# Altium integrated library TI Data Converters Digital to Analog Converter.IntLib: 1533 symbols (part 55 of 99)
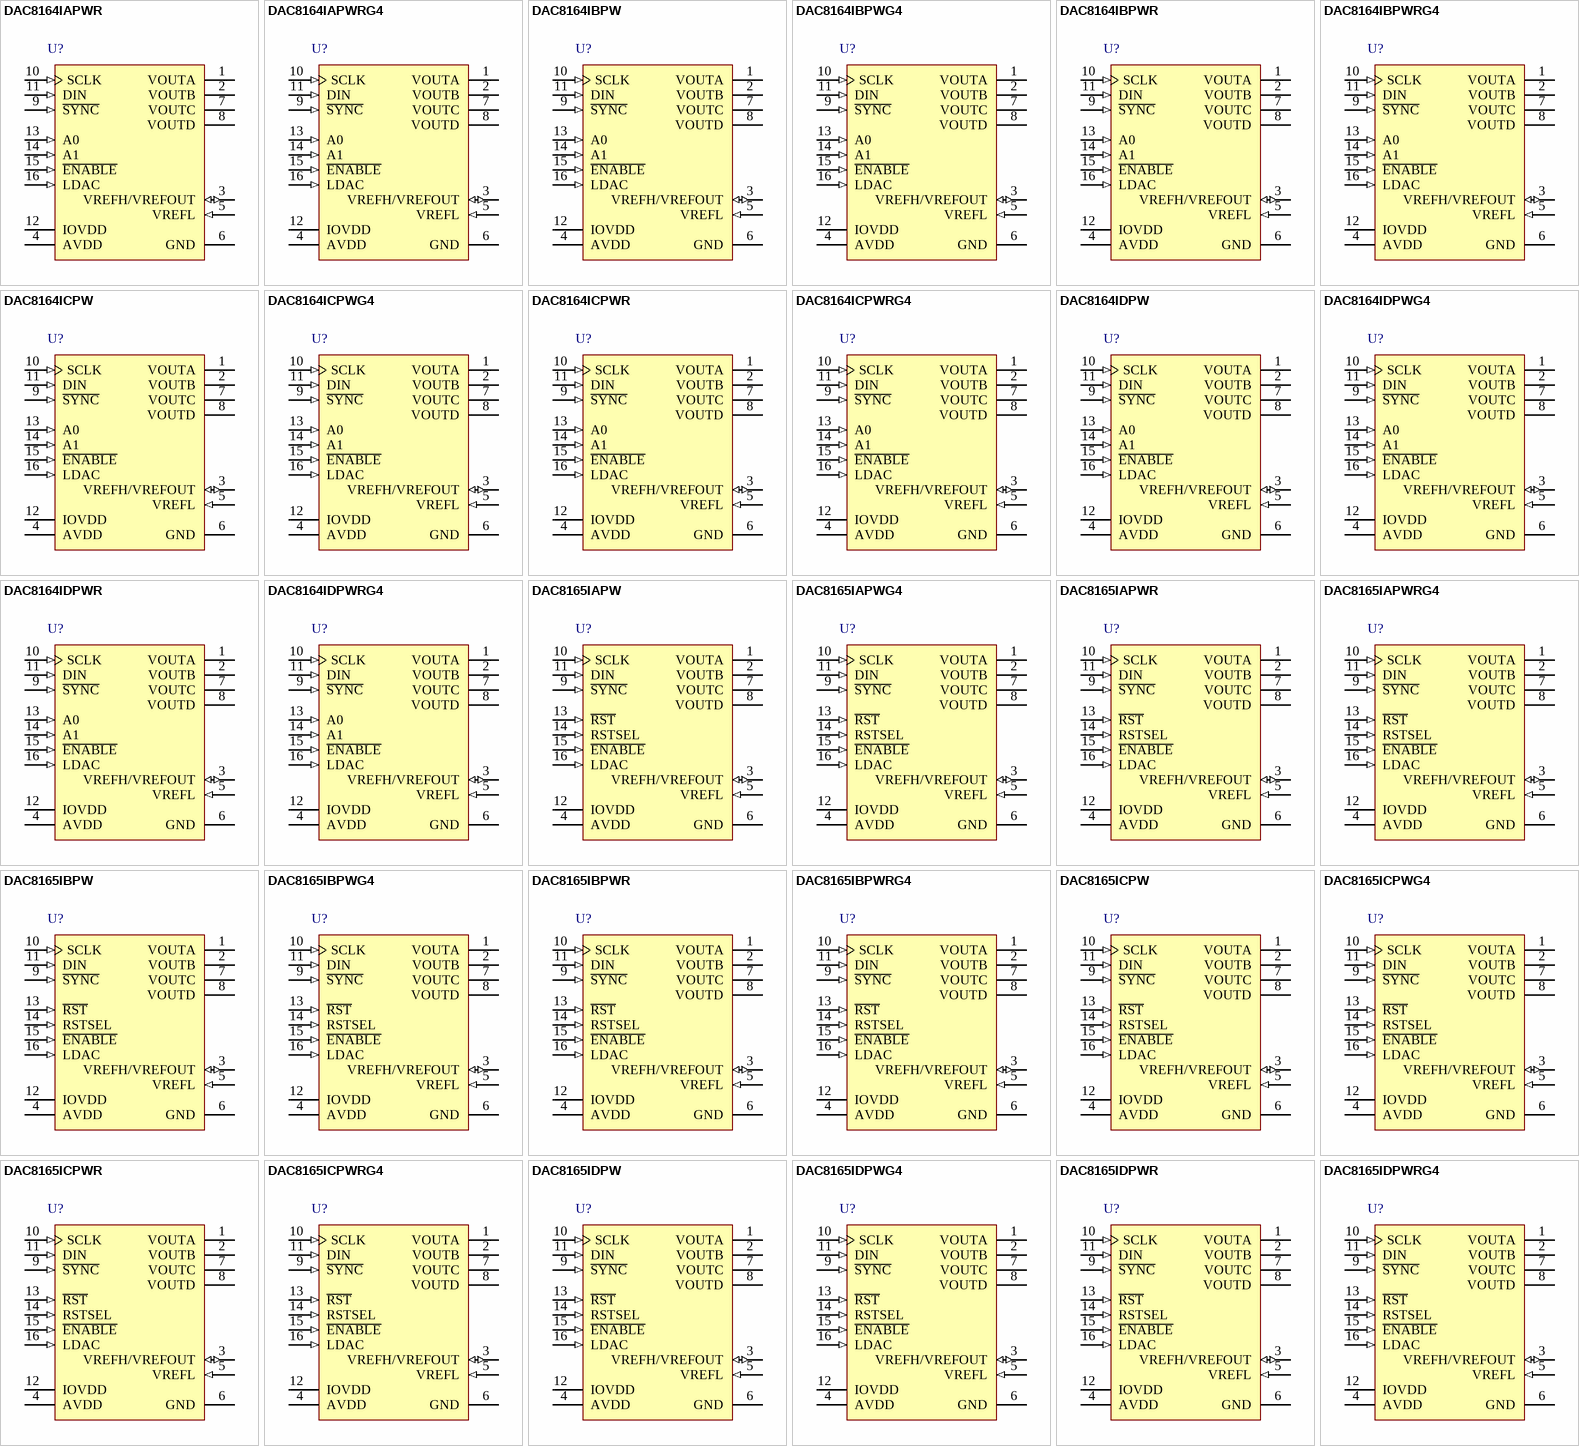
[diagram p127: symbols DAC8164IAPWR to DAC8165IDPWRG4]

## DAC8164IDPWR
designator U?
14-Bit, Quad Channel, Ultra-Low Glitch, Voltage Output DAC with 2.5 V, 2 ppm/degC Internal Reference, -40 to 105 degC, 16-pin SOP (PW16), Green (RoHS & no Sb/Br); Manufacturer: Texas Instruments; PartNumber: DAC8164IDPWR; DAC Channels: 4; DNL(Max)(+/-LSB): 1; INL(Max)(+/-LSB): 2; Interface: Serial SPI; Power Consumption(Typ)(mW): 2.6; Resolution(Bits): 14; Settling Time(us): 8; SFDR(dB): 79; SNR(dB): 87; SubFamily: Precision DAC (=<10MSPS); DatasheetVersion: SBAS410B; PackageVersion: 4040064-4/G, 02/2011; PackageReference: PW16; PackageDescription: 16-Pin Plastic Small Outline, Body 5 x 4.4 mm, Pitch 0.65 mm; Supplier 1: Digi-Key; Supplier Part Number 1: DAC8164IDPWR-ND; Supplier 2: Mouser; Supplier Part Number 2: 595-DAC8164IDPWR; Eco-Plan: Green (RoHS & no Sb/Br); Mounting Technology: Surface Mount; Code_JEDEC: MO-153; ComponentLink1Description: Manufacturer URL; ComponentLink1URL: http://www.ti.com/; ComponentLink2Description: Datasheet; ComponentLink2URL: http://www.ti.com/general/docs/lit/getliterature.tsp?genericPartNumber=DAC8164&fileType=pdf; ComponentLink3Description: Package Specification; ComponentLink3URL: http://www.ti.com/lit/ml/mpds361/mpds361.pdf
footprint TI-PW16_N (SOP, 16-Leads, Body 5x4.4mm, Pitch 0.65mm, IPC Medium Density)
footprint TI-PW16_L (SOP, 16-Leads, Body 5x4.4mm, Pitch 0.65mm, IPC High Density)
footprint TI-PW16_M (SOP, 16-Leads, Body 5x4.4mm, Pitch 0.65mm, IPC Low Density)
pins: 1 VOUTA (hiz) "Analog output voltage from DAC-A", 2 VOUTB (hiz) "Analog output voltage from DAC-B", 3 VREFH/VREFOUT (io) "Positive reference input / reference output 2.5V if internal reference used.", 4 AVDD (power) "Power-supply input, 2.7V to 5.5V", 5 VREFL (in) "Negative reference input", 6 GND (power) "Ground reference point for all circuitry on the part", 7 VOUTC (hiz) "Analog output voltage from DAC-C", 8 VOUTD (hiz) "Analog output voltage from DAC-D", 9 ~{SYNC} (in) "Level-triggered control input (active-low). This input is the frame synchronization signal for the input data. When S\Y\N\C\ goes low, it enables the input shift register, and data are sampled on subsequent falling clock (See Datasheet)", 10 SCLK (in) "Serial clock input. Data can be transferred at rates up to 50MHz. Schmitt-Trigger logic input", 11 DIN (in) "Serial data input. Data are clocked into the 24-bit input shift register on each falling edge of the serial clock input.Schmitt-trigger logic input", 12 IOVDD (power) "Digital input-output power supply", 13 A0 (in) "Address 0-sets device address", 14 A1 (in) "Address 1-sets device address", 15 ~{ENABLE} (in) "The enable pin (active low) connects the SPI interface to the serial port", 16 LDAC (in) "Load DACs; rising edge triggered, loads all DAC registers"

## DAC8164IDPWRG4
designator U?
14-Bit, Quad Channel, Ultra-Low Glitch, Voltage Output DAC with 2.5 V, 2 ppm/degC Internal Reference, -40 to 105 degC, 16-pin SOP (PW16), Green (RoHS & no Sb/Br); Manufacturer: Texas Instruments; PartNumber: DAC8164IDPWRG4; DAC Channels: 4; DNL(Max)(+/-LSB): 1; INL(Max)(+/-LSB): 2; Interface: Serial SPI; Power Consumption(Typ)(mW): 2.6; Resolution(Bits): 14; Settling Time(us): 8; SFDR(dB): 79; SNR(dB): 87; SubFamily: Precision DAC (=<10MSPS); DatasheetVersion: SBAS410B; PackageVersion: 4040064-4/G, 02/2011; PackageReference: PW16; PackageDescription: 16-Pin Plastic Small Outline, Body 5 x 4.4 mm, Pitch 0.65 mm; Supplier 1: Digi-Key; Supplier Part Number 1: DAC8164IDPWRG4-ND; Supplier 2: Mouser; Supplier Part Number 2: 595-DAC8164IDPWRG4; Eco-Plan: Green (RoHS & no Sb/Br); Mounting Technology: Surface Mount; Code_JEDEC: MO-153; ComponentLink1Description: Manufacturer URL; ComponentLink1URL: http://www.ti.com/; ComponentLink2Description: Datasheet; ComponentLink2URL: http://www.ti.com/general/docs/lit/getliterature.tsp?genericPartNumber=DAC8164&fileType=pdf; ComponentLink3Description: Package Specification; ComponentLink3URL: http://www.ti.com/lit/ml/mpds361/mpds361.pdf
footprint TI-PW16_N (SOP, 16-Leads, Body 5x4.4mm, Pitch 0.65mm, IPC Medium Density)
footprint TI-PW16_L (SOP, 16-Leads, Body 5x4.4mm, Pitch 0.65mm, IPC High Density)
footprint TI-PW16_M (SOP, 16-Leads, Body 5x4.4mm, Pitch 0.65mm, IPC Low Density)
pins: 1 VOUTA (hiz) "Analog output voltage from DAC-A", 2 VOUTB (hiz) "Analog output voltage from DAC-B", 3 VREFH/VREFOUT (io) "Positive reference input / reference output 2.5V if internal reference used.", 4 AVDD (power) "Power-supply input, 2.7V to 5.5V", 5 VREFL (in) "Negative reference input", 6 GND (power) "Ground reference point for all circuitry on the part", 7 VOUTC (hiz) "Analog output voltage from DAC-C", 8 VOUTD (hiz) "Analog output voltage from DAC-D", 9 ~{SYNC} (in) "Level-triggered control input (active-low). This input is the frame synchronization signal for the input data. When S\Y\N\C\ goes low, it enables the input shift register, and data are sampled on subsequent falling clock (See Datasheet)", 10 SCLK (in) "Serial clock input. Data can be transferred at rates up to 50MHz. Schmitt-Trigger logic input", 11 DIN (in) "Serial data input. Data are clocked into the 24-bit input shift register on each falling edge of the serial clock input.Schmitt-trigger logic input", 12 IOVDD (power) "Digital input-output power supply", 13 A0 (in) "Address 0-sets device address", 14 A1 (in) "Address 1-sets device address", 15 ~{ENABLE} (in) "The enable pin (active low) connects the SPI interface to the serial port", 16 LDAC (in) "Load DACs; rising edge triggered, loads all DAC registers"

## DAC8165IAPW
designator U?
14-Bit, Quad Channel, Ultra-Low Glitch, Voltage Output DAC with 2.5 V, 2 ppm/degC Internal Reference, -40 to 105 degC, 16-pin SOP (PW16), Green (RoHS & no Sb/Br); Manufacturer: Texas Instruments; PartNumber: DAC8165IAPW; DAC Channels: 4; DNL(Max)(+/-LSB): 1; Interface: Serial SPI; Power Consumption(Typ)(mW): 2.6; Resolution(Bits): 14; Settling Time(us): 8; SFDR(dB): 79; SNR(dB): 87; SubFamily: Precision DAC (=<10MSPS); DatasheetVersion: SBAS409B; PackageVersion: 4040064-4/G, 02/2011; PackageReference: PW16; PackageDescription: 16-Pin Plastic Small Outline, Body 5 x 4.4 mm, Pitch 0.65 mm; Supplier 1: Digi-Key; Supplier Part Number 1: 296-23146-5-ND; Supplier 2: Newark; Supplier Part Number 2: 89M0339; Supplier 3: Mouser; Supplier Part Number 3: 595-DAC8165IAPW; Eco-Plan: Green (RoHS & no Sb/Br); INL(Max)(+/-LSB): 4; Mounting Technology: Surface Mount; Code_JEDEC: MO-153; ComponentLink1Description: Manufacturer URL; ComponentLink1URL: http://www.ti.com/; ComponentLink2Description: Datasheet; ComponentLink2URL: http://www.ti.com/general/docs/lit/getliterature.tsp?genericPartNumber=DAC8165&fileType=pdf; ComponentLink3Description: Package Specification; ComponentLink3URL: http://www.ti.com/lit/ml/mpds361/mpds361.pdf
footprint TI-PW16_N (SOP, 16-Leads, Body 5x4.4mm, Pitch 0.65mm, IPC Medium Density)
footprint TI-PW16_L (SOP, 16-Leads, Body 5x4.4mm, Pitch 0.65mm, IPC High Density)
footprint TI-PW16_M (SOP, 16-Leads, Body 5x4.4mm, Pitch 0.65mm, IPC Low Density)
pins: 1 VOUTA (hiz) "Analog output voltage from DAC A", 2 VOUTB (hiz) "Analog output voltage from DAC B", 3 VREFH/VREFOUT (io) "Positive reference input / reference output 2.5V if internal reference used.", 4 AVDD (power) "Power-supply input, 2.7V to 5.5V", 5 VREFL (in) "Negative reference input", 6 GND (power) "Ground reference point for all circuitry on the part", 7 VOUTC (hiz) "Analog output voltage from DAC C", 8 VOUTD (hiz) "Analog output voltage from DAC D", 9 ~{SYNC} (in) "Level-triggered control input (active low). This input is the frame synchronization signal for the input data. When S\Y\N\C\ goes low, it enables the input shift register, and data are sampled on subsequent falling clock (See Datasheet)", 10 SCLK (in) "Serial clock input. Data can be transferred at rates up to 50MHz. Schmitt-Trigger logic input.", 11 DIN (in) "Serial data input. Data are clocked into the 24-bit input shift register on each falling edge of the serial clock input. Schmitt-Trigger logic input.", 12 IOVDD (power) "Digital input-output power supply", 13 ~{RST} (in) "Asynchronous reset. Active low. If R\S\T\ is low, all DAC channels reset either to zero-scale (RSTSEL = 0) or to mid-scale (RSTSEL = 1)", 14 RSTSEL (in) "Reset select. If RSTSEL is low, input coding is binary; if high = two's complement.", 15 ~{ENABLE} (in) "The enable pin (active low) connects the SPI interface to the serial port", 16 LDAC (in) "Load DACs; rising edge triggered, loads all DAC registers"

## DAC8165IAPWG4
designator U?
14-Bit, Quad Channel, Ultra-Low Glitch, Voltage Output DAC with 2.5 V, 2 ppm/degC Internal Reference, -40 to 105 degC, 16-pin SOP (PW16), Green (RoHS & no Sb/Br); Manufacturer: Texas Instruments; PartNumber: DAC8165IAPWG4; DAC Channels: 4; DNL(Max)(+/-LSB): 1; Interface: Serial SPI; Power Consumption(Typ)(mW): 2.6; Resolution(Bits): 14; Settling Time(us): 8; SFDR(dB): 79; SNR(dB): 87; SubFamily: Precision DAC (=<10MSPS); DatasheetVersion: SBAS409B; PackageVersion: 4040064-4/G, 02/2011; PackageReference: PW16; PackageDescription: 16-Pin Plastic Small Outline, Body 5 x 4.4 mm, Pitch 0.65 mm; Supplier 1: Digi-Key; Supplier Part Number 1: DAC8165IAPWG4-ND; Supplier 2: Mouser; Supplier Part Number 2: 595-DAC8165IAPWG4; Eco-Plan: Green (RoHS & no Sb/Br); INL(Max)(+/-LSB): 4; Mounting Technology: Surface Mount; Code_JEDEC: MO-153; ComponentLink1Description: Manufacturer URL; ComponentLink1URL: http://www.ti.com/; ComponentLink2Description: Datasheet; ComponentLink2URL: http://www.ti.com/general/docs/lit/getliterature.tsp?genericPartNumber=DAC8165&fileType=pdf; ComponentLink3Description: Package Specification; ComponentLink3URL: http://www.ti.com/lit/ml/mpds361/mpds361.pdf
footprint TI-PW16_N (SOP, 16-Leads, Body 5x4.4mm, Pitch 0.65mm, IPC Medium Density)
footprint TI-PW16_L (SOP, 16-Leads, Body 5x4.4mm, Pitch 0.65mm, IPC High Density)
footprint TI-PW16_M (SOP, 16-Leads, Body 5x4.4mm, Pitch 0.65mm, IPC Low Density)
pins: 1 VOUTA (hiz) "Analog output voltage from DAC A", 2 VOUTB (hiz) "Analog output voltage from DAC B", 3 VREFH/VREFOUT (io) "Positive reference input / reference output 2.5V if internal reference used.", 4 AVDD (power) "Power-supply input, 2.7V to 5.5V", 5 VREFL (in) "Negative reference input", 6 GND (power) "Ground reference point for all circuitry on the part", 7 VOUTC (hiz) "Analog output voltage from DAC C", 8 VOUTD (hiz) "Analog output voltage from DAC D", 9 ~{SYNC} (in) "Level-triggered control input (active low). This input is the frame synchronization signal for the input data. When S\Y\N\C\ goes low, it enables the input shift register, and data are sampled on subsequent falling clock (See Datasheet)", 10 SCLK (in) "Serial clock input. Data can be transferred at rates up to 50MHz. Schmitt-Trigger logic input.", 11 DIN (in) "Serial data input. Data are clocked into the 24-bit input shift register on each falling edge of the serial clock input. Schmitt-Trigger logic input.", 12 IOVDD (power) "Digital input-output power supply", 13 ~{RST} (in) "Asynchronous reset. Active low. If R\S\T\ is low, all DAC channels reset either to zero-scale (RSTSEL = 0) or to mid-scale (RSTSEL = 1)", 14 RSTSEL (in) "Reset select. If RSTSEL is low, input coding is binary; if high = two's complement.", 15 ~{ENABLE} (in) "The enable pin (active low) connects the SPI interface to the serial port", 16 LDAC (in) "Load DACs; rising edge triggered, loads all DAC registers"

## DAC8165IAPWR
designator U?
14-Bit, Quad Channel, Ultra-Low Glitch, Voltage Output DAC with 2.5 V, 2 ppm/degC Internal Reference, -40 to 105 degC, 16-pin SOP (PW16), Green (RoHS & no Sb/Br); Manufacturer: Texas Instruments; PartNumber: DAC8165IAPWR; DAC Channels: 4; DNL(Max)(+/-LSB): 1; Interface: Serial SPI; Power Consumption(Typ)(mW): 2.6; Resolution(Bits): 14; Settling Time(us): 8; SFDR(dB): 79; SNR(dB): 87; SubFamily: Precision DAC (=<10MSPS); DatasheetVersion: SBAS409B; PackageVersion: 4040064-4/G, 02/2011; PackageReference: PW16; PackageDescription: 16-Pin Plastic Small Outline, Body 5 x 4.4 mm, Pitch 0.65 mm; Supplier 1: Digi-Key; Supplier Part Number 1: DAC8165IAPWR-ND; Supplier 2: Mouser; Supplier Part Number 2: 595-DAC8165IAPWR; Eco-Plan: Green (RoHS & no Sb/Br); INL(Max)(+/-LSB): 4; Mounting Technology: Surface Mount; Code_JEDEC: MO-153; ComponentLink1Description: Manufacturer URL; ComponentLink1URL: http://www.ti.com/; ComponentLink2Description: Datasheet; ComponentLink2URL: http://www.ti.com/general/docs/lit/getliterature.tsp?genericPartNumber=DAC8165&fileType=pdf; ComponentLink3Description: Package Specification; ComponentLink3URL: http://www.ti.com/lit/ml/mpds361/mpds361.pdf
footprint TI-PW16_N (SOP, 16-Leads, Body 5x4.4mm, Pitch 0.65mm, IPC Medium Density)
footprint TI-PW16_L (SOP, 16-Leads, Body 5x4.4mm, Pitch 0.65mm, IPC High Density)
footprint TI-PW16_M (SOP, 16-Leads, Body 5x4.4mm, Pitch 0.65mm, IPC Low Density)
pins: 1 VOUTA (hiz) "Analog output voltage from DAC A", 2 VOUTB (hiz) "Analog output voltage from DAC B", 3 VREFH/VREFOUT (io) "Positive reference input / reference output 2.5V if internal reference used.", 4 AVDD (power) "Power-supply input, 2.7V to 5.5V", 5 VREFL (in) "Negative reference input", 6 GND (power) "Ground reference point for all circuitry on the part", 7 VOUTC (hiz) "Analog output voltage from DAC C", 8 VOUTD (hiz) "Analog output voltage from DAC D", 9 ~{SYNC} (in) "Level-triggered control input (active low). This input is the frame synchronization signal for the input data. When S\Y\N\C\ goes low, it enables the input shift register, and data are sampled on subsequent falling clock (See Datasheet)", 10 SCLK (in) "Serial clock input. Data can be transferred at rates up to 50MHz. Schmitt-Trigger logic input.", 11 DIN (in) "Serial data input. Data are clocked into the 24-bit input shift register on each falling edge of the serial clock input. Schmitt-Trigger logic input.", 12 IOVDD (power) "Digital input-output power supply", 13 ~{RST} (in) "Asynchronous reset. Active low. If R\S\T\ is low, all DAC channels reset either to zero-scale (RSTSEL = 0) or to mid-scale (RSTSEL = 1)", 14 RSTSEL (in) "Reset select. If RSTSEL is low, input coding is binary; if high = two's complement.", 15 ~{ENABLE} (in) "The enable pin (active low) connects the SPI interface to the serial port", 16 LDAC (in) "Load DACs; rising edge triggered, loads all DAC registers"

## DAC8165IAPWRG4
designator U?
14-Bit, Quad Channel, Ultra-Low Glitch, Voltage Output DAC with 2.5 V, 2 ppm/degC Internal Reference, -40 to 105 degC, 16-pin SOP (PW16), Green (RoHS & no Sb/Br); Manufacturer: Texas Instruments; PartNumber: DAC8165IAPWRG4; DAC Channels: 4; DNL(Max)(+/-LSB): 1; Interface: Serial SPI; Power Consumption(Typ)(mW): 2.6; Resolution(Bits): 14; Settling Time(us): 8; SFDR(dB): 79; SNR(dB): 87; SubFamily: Precision DAC (=<10MSPS); DatasheetVersion: SBAS409B; PackageVersion: 4040064-4/G, 02/2011; PackageReference: PW16; PackageDescription: 16-Pin Plastic Small Outline, Body 5 x 4.4 mm, Pitch 0.65 mm; Supplier 1: Digi-Key; Supplier Part Number 1: DAC8165IAPWRG4-ND; Supplier 2: Mouser; Supplier Part Number 2: 595-DAC8165IAPWRG4; Eco-Plan: Green (RoHS & no Sb/Br); INL(Max)(+/-LSB): 4; Mounting Technology: Surface Mount; Code_JEDEC: MO-153; ComponentLink1Description: Manufacturer URL; ComponentLink1URL: http://www.ti.com/; ComponentLink2Description: Datasheet; ComponentLink2URL: http://www.ti.com/general/docs/lit/getliterature.tsp?genericPartNumber=DAC8165&fileType=pdf; ComponentLink3Description: Package Specification; ComponentLink3URL: http://www.ti.com/lit/ml/mpds361/mpds361.pdf
footprint TI-PW16_N (SOP, 16-Leads, Body 5x4.4mm, Pitch 0.65mm, IPC Medium Density)
footprint TI-PW16_L (SOP, 16-Leads, Body 5x4.4mm, Pitch 0.65mm, IPC High Density)
footprint TI-PW16_M (SOP, 16-Leads, Body 5x4.4mm, Pitch 0.65mm, IPC Low Density)
pins: 1 VOUTA (hiz) "Analog output voltage from DAC A", 2 VOUTB (hiz) "Analog output voltage from DAC B", 3 VREFH/VREFOUT (io) "Positive reference input / reference output 2.5V if internal reference used.", 4 AVDD (power) "Power-supply input, 2.7V to 5.5V", 5 VREFL (in) "Negative reference input", 6 GND (power) "Ground reference point for all circuitry on the part", 7 VOUTC (hiz) "Analog output voltage from DAC C", 8 VOUTD (hiz) "Analog output voltage from DAC D", 9 ~{SYNC} (in) "Level-triggered control input (active low). This input is the frame synchronization signal for the input data. When S\Y\N\C\ goes low, it enables the input shift register, and data are sampled on subsequent falling clock (See Datasheet)", 10 SCLK (in) "Serial clock input. Data can be transferred at rates up to 50MHz. Schmitt-Trigger logic input.", 11 DIN (in) "Serial data input. Data are clocked into the 24-bit input shift register on each falling edge of the serial clock input. Schmitt-Trigger logic input.", 12 IOVDD (power) "Digital input-output power supply", 13 ~{RST} (in) "Asynchronous reset. Active low. If R\S\T\ is low, all DAC channels reset either to zero-scale (RSTSEL = 0) or to mid-scale (RSTSEL = 1)", 14 RSTSEL (in) "Reset select. If RSTSEL is low, input coding is binary; if high = two's complement.", 15 ~{ENABLE} (in) "The enable pin (active low) connects the SPI interface to the serial port", 16 LDAC (in) "Load DACs; rising edge triggered, loads all DAC registers"

## DAC8165IBPW
designator U?
14-Bit, Quad Channel, Ultra-Low Glitch, Voltage Output DAC with 2.5 V, 2 ppm/degC Internal Reference, -40 to 105 degC, 16-pin SOP (PW16), Green (RoHS & no Sb/Br); Manufacturer: Texas Instruments; PartNumber: DAC8165IBPW; DAC Channels: 4; DNL(Max)(+/-LSB): 1; INL(Max)(+/-LSB): 2; Interface: Serial SPI; Power Consumption(Typ)(mW): 2.6; Resolution(Bits): 14; Settling Time(us): 8; SFDR(dB): 79; SNR(dB): 87; SubFamily: Precision DAC (=<10MSPS); DatasheetVersion: SBAS409B; PackageVersion: 4040064-4/G, 02/2011; PackageReference: PW16; PackageDescription: 16-Pin Plastic Small Outline, Body 5 x 4.4 mm, Pitch 0.65 mm; Supplier 1: Digi-Key; Supplier Part Number 1: 296-23147-5-ND; Supplier 2: Newark; Supplier Part Number 2: 89M0340; Supplier 3: Mouser; Supplier Part Number 3: 595-DAC8165IBPW; Eco-Plan: Green (RoHS & no Sb/Br); Mounting Technology: Surface Mount; Code_JEDEC: MO-153; ComponentLink1Description: Manufacturer URL; ComponentLink1URL: http://www.ti.com/; ComponentLink2Description: Datasheet; ComponentLink2URL: http://www.ti.com/general/docs/lit/getliterature.tsp?genericPartNumber=DAC8165&fileType=pdf; ComponentLink3Description: Package Specification; ComponentLink3URL: http://www.ti.com/lit/ml/mpds361/mpds361.pdf
footprint TI-PW16_N (SOP, 16-Leads, Body 5x4.4mm, Pitch 0.65mm, IPC Medium Density)
footprint TI-PW16_L (SOP, 16-Leads, Body 5x4.4mm, Pitch 0.65mm, IPC High Density)
footprint TI-PW16_M (SOP, 16-Leads, Body 5x4.4mm, Pitch 0.65mm, IPC Low Density)
pins: 1 VOUTA (hiz) "Analog output voltage from DAC A", 2 VOUTB (hiz) "Analog output voltage from DAC B", 3 VREFH/VREFOUT (io) "Positive reference input / reference output 2.5V if internal reference used.", 4 AVDD (power) "Power-supply input, 2.7V to 5.5V", 5 VREFL (in) "Negative reference input", 6 GND (power) "Ground reference point for all circuitry on the part", 7 VOUTC (hiz) "Analog output voltage from DAC C", 8 VOUTD (hiz) "Analog output voltage from DAC D", 9 ~{SYNC} (in) "Level-triggered control input (active low). This input is the frame synchronization signal for the input data. When S\Y\N\C\ goes low, it enables the input shift register, and data are sampled on subsequent falling clock (See Datasheet)", 10 SCLK (in) "Serial clock input. Data can be transferred at rates up to 50MHz. Schmitt-Trigger logic input.", 11 DIN (in) "Serial data input. Data are clocked into the 24-bit input shift register on each falling edge of the serial clock input. Schmitt-Trigger logic input.", 12 IOVDD (power) "Digital input-output power supply", 13 ~{RST} (in) "Asynchronous reset. Active low. If R\S\T\ is low, all DAC channels reset either to zero-scale (RSTSEL = 0) or to mid-scale (RSTSEL = 1)", 14 RSTSEL (in) "Reset select. If RSTSEL is low, input coding is binary; if high = two's complement.", 15 ~{ENABLE} (in) "The enable pin (active low) connects the SPI interface to the serial port", 16 LDAC (in) "Load DACs; rising edge triggered, loads all DAC registers"

## DAC8165IBPWG4
designator U?
14-Bit, Quad Channel, Ultra-Low Glitch, Voltage Output DAC with 2.5 V, 2 ppm/degC Internal Reference, -40 to 105 degC, 16-pin SOP (PW16), Green (RoHS & no Sb/Br); Manufacturer: Texas Instruments; PartNumber: DAC8165IBPWG4; DAC Channels: 4; DNL(Max)(+/-LSB): 1; INL(Max)(+/-LSB): 2; Interface: Serial SPI; Power Consumption(Typ)(mW): 2.6; Resolution(Bits): 14; Settling Time(us): 8; SFDR(dB): 79; SNR(dB): 87; SubFamily: Precision DAC (=<10MSPS); DatasheetVersion: SBAS409B; PackageVersion: 4040064-4/G, 02/2011; PackageReference: PW16; PackageDescription: 16-Pin Plastic Small Outline, Body 5 x 4.4 mm, Pitch 0.65 mm; Supplier 1: Digi-Key; Supplier Part Number 1: DAC8165IBPWG4-ND; Supplier 2: Mouser; Supplier Part Number 2: 595-DAC8165IBPWG4; Eco-Plan: Green (RoHS & no Sb/Br); Mounting Technology: Surface Mount; Code_JEDEC: MO-153; ComponentLink1Description: Manufacturer URL; ComponentLink1URL: http://www.ti.com/; ComponentLink2Description: Datasheet; ComponentLink2URL: http://www.ti.com/general/docs/lit/getliterature.tsp?genericPartNumber=DAC8165&fileType=pdf; ComponentLink3Description: Package Specification; ComponentLink3URL: http://www.ti.com/lit/ml/mpds361/mpds361.pdf
footprint TI-PW16_N (SOP, 16-Leads, Body 5x4.4mm, Pitch 0.65mm, IPC Medium Density)
footprint TI-PW16_L (SOP, 16-Leads, Body 5x4.4mm, Pitch 0.65mm, IPC High Density)
footprint TI-PW16_M (SOP, 16-Leads, Body 5x4.4mm, Pitch 0.65mm, IPC Low Density)
pins: 1 VOUTA (hiz) "Analog output voltage from DAC A", 2 VOUTB (hiz) "Analog output voltage from DAC B", 3 VREFH/VREFOUT (io) "Positive reference input / reference output 2.5V if internal reference used.", 4 AVDD (power) "Power-supply input, 2.7V to 5.5V", 5 VREFL (in) "Negative reference input", 6 GND (power) "Ground reference point for all circuitry on the part", 7 VOUTC (hiz) "Analog output voltage from DAC C", 8 VOUTD (hiz) "Analog output voltage from DAC D", 9 ~{SYNC} (in) "Level-triggered control input (active low). This input is the frame synchronization signal for the input data. When S\Y\N\C\ goes low, it enables the input shift register, and data are sampled on subsequent falling clock (See Datasheet)", 10 SCLK (in) "Serial clock input. Data can be transferred at rates up to 50MHz. Schmitt-Trigger logic input.", 11 DIN (in) "Serial data input. Data are clocked into the 24-bit input shift register on each falling edge of the serial clock input. Schmitt-Trigger logic input.", 12 IOVDD (power) "Digital input-output power supply", 13 ~{RST} (in) "Asynchronous reset. Active low. If R\S\T\ is low, all DAC channels reset either to zero-scale (RSTSEL = 0) or to mid-scale (RSTSEL = 1)", 14 RSTSEL (in) "Reset select. If RSTSEL is low, input coding is binary; if high = two's complement.", 15 ~{ENABLE} (in) "The enable pin (active low) connects the SPI interface to the serial port", 16 LDAC (in) "Load DACs; rising edge triggered, loads all DAC registers"

## DAC8165IBPWR
designator U?
14-Bit, Quad Channel, Ultra-Low Glitch, Voltage Output DAC with 2.5 V, 2 ppm/degC Internal Reference, -40 to 105 degC, 16-pin SOP (PW16), Green (RoHS & no Sb/Br); Manufacturer: Texas Instruments; PartNumber: DAC8165IBPWR; DAC Channels: 4; DNL(Max)(+/-LSB): 1; INL(Max)(+/-LSB): 2; Interface: Serial SPI; Power Consumption(Typ)(mW): 2.6; Resolution(Bits): 14; Settling Time(us): 8; SFDR(dB): 79; SNR(dB): 87; SubFamily: Precision DAC (=<10MSPS); DatasheetVersion: SBAS409B; PackageVersion: 4040064-4/G, 02/2011; PackageReference: PW16; PackageDescription: 16-Pin Plastic Small Outline, Body 5 x 4.4 mm, Pitch 0.65 mm; Supplier 1: Digi-Key; Supplier Part Number 1: DAC8165IBPWR-ND; Supplier 2: Mouser; Supplier Part Number 2: 595-DAC8165IBPWR; Eco-Plan: Green (RoHS & no Sb/Br); Mounting Technology: Surface Mount; Code_JEDEC: MO-153; ComponentLink1Description: Manufacturer URL; ComponentLink1URL: http://www.ti.com/; ComponentLink2Description: Datasheet; ComponentLink2URL: http://www.ti.com/general/docs/lit/getliterature.tsp?genericPartNumber=DAC8165&fileType=pdf; ComponentLink3Description: Package Specification; ComponentLink3URL: http://www.ti.com/lit/ml/mpds361/mpds361.pdf
footprint TI-PW16_N (SOP, 16-Leads, Body 5x4.4mm, Pitch 0.65mm, IPC Medium Density)
footprint TI-PW16_L (SOP, 16-Leads, Body 5x4.4mm, Pitch 0.65mm, IPC High Density)
footprint TI-PW16_M (SOP, 16-Leads, Body 5x4.4mm, Pitch 0.65mm, IPC Low Density)
pins: 1 VOUTA (hiz) "Analog output voltage from DAC A", 2 VOUTB (hiz) "Analog output voltage from DAC B", 3 VREFH/VREFOUT (io) "Positive reference input / reference output 2.5V if internal reference used.", 4 AVDD (power) "Power-supply input, 2.7V to 5.5V", 5 VREFL (in) "Negative reference input", 6 GND (power) "Ground reference point for all circuitry on the part", 7 VOUTC (hiz) "Analog output voltage from DAC C", 8 VOUTD (hiz) "Analog output voltage from DAC D", 9 ~{SYNC} (in) "Level-triggered control input (active low). This input is the frame synchronization signal for the input data. When S\Y\N\C\ goes low, it enables the input shift register, and data are sampled on subsequent falling clock (See Datasheet)", 10 SCLK (in) "Serial clock input. Data can be transferred at rates up to 50MHz. Schmitt-Trigger logic input.", 11 DIN (in) "Serial data input. Data are clocked into the 24-bit input shift register on each falling edge of the serial clock input. Schmitt-Trigger logic input.", 12 IOVDD (power) "Digital input-output power supply", 13 ~{RST} (in) "Asynchronous reset. Active low. If R\S\T\ is low, all DAC channels reset either to zero-scale (RSTSEL = 0) or to mid-scale (RSTSEL = 1)", 14 RSTSEL (in) "Reset select. If RSTSEL is low, input coding is binary; if high = two's complement.", 15 ~{ENABLE} (in) "The enable pin (active low) connects the SPI interface to the serial port", 16 LDAC (in) "Load DACs; rising edge triggered, loads all DAC registers"

## DAC8165IBPWRG4
designator U?
14-Bit, Quad Channel, Ultra-Low Glitch, Voltage Output DAC with 2.5 V, 2 ppm/degC Internal Reference, -40 to 105 degC, 16-pin SOP (PW16), Green (RoHS & no Sb/Br); Manufacturer: Texas Instruments; PartNumber: DAC8165IBPWRG4; DAC Channels: 4; DNL(Max)(+/-LSB): 1; INL(Max)(+/-LSB): 2; Interface: Serial SPI; Power Consumption(Typ)(mW): 2.6; Resolution(Bits): 14; Settling Time(us): 8; SFDR(dB): 79; SNR(dB): 87; SubFamily: Precision DAC (=<10MSPS); DatasheetVersion: SBAS409B; PackageVersion: 4040064-4/G, 02/2011; PackageReference: PW16; PackageDescription: 16-Pin Plastic Small Outline, Body 5 x 4.4 mm, Pitch 0.65 mm; Supplier 1: Digi-Key; Supplier Part Number 1: DAC8165IBPWRG4-ND; Supplier 2: Mouser; Supplier Part Number 2: 595-DAC8165IBPWRG4; Eco-Plan: Green (RoHS & no Sb/Br); Mounting Technology: Surface Mount; Code_JEDEC: MO-153; ComponentLink1Description: Manufacturer URL; ComponentLink1URL: http://www.ti.com/; ComponentLink2Description: Datasheet; ComponentLink2URL: http://www.ti.com/general/docs/lit/getliterature.tsp?genericPartNumber=DAC8165&fileType=pdf; ComponentLink3Description: Package Specification; ComponentLink3URL: http://www.ti.com/lit/ml/mpds361/mpds361.pdf
footprint TI-PW16_N (SOP, 16-Leads, Body 5x4.4mm, Pitch 0.65mm, IPC Medium Density)
footprint TI-PW16_L (SOP, 16-Leads, Body 5x4.4mm, Pitch 0.65mm, IPC High Density)
footprint TI-PW16_M (SOP, 16-Leads, Body 5x4.4mm, Pitch 0.65mm, IPC Low Density)
pins: 1 VOUTA (hiz) "Analog output voltage from DAC A", 2 VOUTB (hiz) "Analog output voltage from DAC B", 3 VREFH/VREFOUT (io) "Positive reference input / reference output 2.5V if internal reference used.", 4 AVDD (power) "Power-supply input, 2.7V to 5.5V", 5 VREFL (in) "Negative reference input", 6 GND (power) "Ground reference point for all circuitry on the part", 7 VOUTC (hiz) "Analog output voltage from DAC C", 8 VOUTD (hiz) "Analog output voltage from DAC D", 9 ~{SYNC} (in) "Level-triggered control input (active low). This input is the frame synchronization signal for the input data. When S\Y\N\C\ goes low, it enables the input shift register, and data are sampled on subsequent falling clock (See Datasheet)", 10 SCLK (in) "Serial clock input. Data can be transferred at rates up to 50MHz. Schmitt-Trigger logic input.", 11 DIN (in) "Serial data input. Data are clocked into the 24-bit input shift register on each falling edge of the serial clock input. Schmitt-Trigger logic input.", 12 IOVDD (power) "Digital input-output power supply", 13 ~{RST} (in) "Asynchronous reset. Active low. If R\S\T\ is low, all DAC channels reset either to zero-scale (RSTSEL = 0) or to mid-scale (RSTSEL = 1)", 14 RSTSEL (in) "Reset select. If RSTSEL is low, input coding is binary; if high = two's complement.", 15 ~{ENABLE} (in) "The enable pin (active low) connects the SPI interface to the serial port", 16 LDAC (in) "Load DACs; rising edge triggered, loads all DAC registers"

## DAC8165ICPW
designator U?
14-Bit, Quad Channel, Ultra-Low Glitch, Voltage Output DAC with 2.5 V, 2 ppm/degC Internal Reference, -40 to 105 degC, 16-pin SOP (PW16), Green (RoHS & no Sb/Br); Manufacturer: Texas Instruments; PartNumber: DAC8165ICPW; DAC Channels: 4; DNL(Max)(+/-LSB): 1; Interface: Serial SPI; Power Consumption(Typ)(mW): 2.6; Resolution(Bits): 14; Settling Time(us): 8; SFDR(dB): 79; SNR(dB): 87; SubFamily: Precision DAC (=<10MSPS); DatasheetVersion: SBAS409B; PackageVersion: 4040064-4/G, 02/2011; PackageReference: PW16; PackageDescription: 16-Pin Plastic Small Outline, Body 5 x 4.4 mm, Pitch 0.65 mm; Supplier 1: Digi-Key; Supplier Part Number 1: 296-23148-5-ND; Supplier 2: Newark; Supplier Part Number 2: 89M0341; Supplier 3: Mouser; Supplier Part Number 3: 595-DAC8165ICPW; Eco-Plan: Green (RoHS & no Sb/Br); INL(Max)(+/-LSB): 4; Mounting Technology: Surface Mount; Code_JEDEC: MO-153; ComponentLink1Description: Manufacturer URL; ComponentLink1URL: http://www.ti.com/; ComponentLink2Description: Datasheet; ComponentLink2URL: http://www.ti.com/general/docs/lit/getliterature.tsp?genericPartNumber=DAC8165&fileType=pdf; ComponentLink3Description: Package Specification; ComponentLink3URL: http://www.ti.com/lit/ml/mpds361/mpds361.pdf
footprint TI-PW16_N (SOP, 16-Leads, Body 5x4.4mm, Pitch 0.65mm, IPC Medium Density)
footprint TI-PW16_L (SOP, 16-Leads, Body 5x4.4mm, Pitch 0.65mm, IPC High Density)
footprint TI-PW16_M (SOP, 16-Leads, Body 5x4.4mm, Pitch 0.65mm, IPC Low Density)
pins: 1 VOUTA (hiz) "Analog output voltage from DAC A", 2 VOUTB (hiz) "Analog output voltage from DAC B", 3 VREFH/VREFOUT (io) "Positive reference input / reference output 2.5V if internal reference used.", 4 AVDD (power) "Power-supply input, 2.7V to 5.5V", 5 VREFL (in) "Negative reference input", 6 GND (power) "Ground reference point for all circuitry on the part", 7 VOUTC (hiz) "Analog output voltage from DAC C", 8 VOUTD (hiz) "Analog output voltage from DAC D", 9 ~{SYNC} (in) "Level-triggered control input (active low). This input is the frame synchronization signal for the input data. When S\Y\N\C\ goes low, it enables the input shift register, and data are sampled on subsequent falling clock (See Datasheet)", 10 SCLK (in) "Serial clock input. Data can be transferred at rates up to 50MHz. Schmitt-Trigger logic input.", 11 DIN (in) "Serial data input. Data are clocked into the 24-bit input shift register on each falling edge of the serial clock input. Schmitt-Trigger logic input.", 12 IOVDD (power) "Digital input-output power supply", 13 ~{RST} (in) "Asynchronous reset. Active low. If R\S\T\ is low, all DAC channels reset either to zero-scale (RSTSEL = 0) or to mid-scale (RSTSEL = 1)", 14 RSTSEL (in) "Reset select. If RSTSEL is low, input coding is binary; if high = two's complement.", 15 ~{ENABLE} (in) "The enable pin (active low) connects the SPI interface to the serial port", 16 LDAC (in) "Load DACs; rising edge triggered, loads all DAC registers"

## DAC8165ICPWG4
designator U?
14-Bit, Quad Channel, Ultra-Low Glitch, Voltage Output DAC with 2.5 V, 2 ppm/degC Internal Reference, -40 to 105 degC, 16-pin SOP (PW16), Green (RoHS & no Sb/Br); Manufacturer: Texas Instruments; PartNumber: DAC8165ICPWG4; DAC Channels: 4; DNL(Max)(+/-LSB): 1; Interface: Serial SPI; Power Consumption(Typ)(mW): 2.6; Resolution(Bits): 14; Settling Time(us): 8; SFDR(dB): 79; SNR(dB): 87; SubFamily: Precision DAC (=<10MSPS); DatasheetVersion: SBAS409B; PackageVersion: 4040064-4/G, 02/2011; PackageReference: PW16; PackageDescription: 16-Pin Plastic Small Outline, Body 5 x 4.4 mm, Pitch 0.65 mm; Supplier 1: Digi-Key; Supplier Part Number 1: DAC8165ICPWG4-ND; Supplier 2: Mouser; Supplier Part Number 2: 595-DAC8165ICPWG4; Eco-Plan: Green (RoHS & no Sb/Br); INL(Max)(+/-LSB): 4; Mounting Technology: Surface Mount; Code_JEDEC: MO-153; ComponentLink1Description: Manufacturer URL; ComponentLink1URL: http://www.ti.com/; ComponentLink2Description: Datasheet; ComponentLink2URL: http://www.ti.com/general/docs/lit/getliterature.tsp?genericPartNumber=DAC8165&fileType=pdf; ComponentLink3Description: Package Specification; ComponentLink3URL: http://www.ti.com/lit/ml/mpds361/mpds361.pdf
footprint TI-PW16_N (SOP, 16-Leads, Body 5x4.4mm, Pitch 0.65mm, IPC Medium Density)
footprint TI-PW16_L (SOP, 16-Leads, Body 5x4.4mm, Pitch 0.65mm, IPC High Density)
footprint TI-PW16_M (SOP, 16-Leads, Body 5x4.4mm, Pitch 0.65mm, IPC Low Density)
pins: 1 VOUTA (hiz) "Analog output voltage from DAC A", 2 VOUTB (hiz) "Analog output voltage from DAC B", 3 VREFH/VREFOUT (io) "Positive reference input / reference output 2.5V if internal reference used.", 4 AVDD (power) "Power-supply input, 2.7V to 5.5V", 5 VREFL (in) "Negative reference input", 6 GND (power) "Ground reference point for all circuitry on the part", 7 VOUTC (hiz) "Analog output voltage from DAC C", 8 VOUTD (hiz) "Analog output voltage from DAC D", 9 ~{SYNC} (in) "Level-triggered control input (active low). This input is the frame synchronization signal for the input data. When S\Y\N\C\ goes low, it enables the input shift register, and data are sampled on subsequent falling clock (See Datasheet)", 10 SCLK (in) "Serial clock input. Data can be transferred at rates up to 50MHz. Schmitt-Trigger logic input.", 11 DIN (in) "Serial data input. Data are clocked into the 24-bit input shift register on each falling edge of the serial clock input. Schmitt-Trigger logic input.", 12 IOVDD (power) "Digital input-output power supply", 13 ~{RST} (in) "Asynchronous reset. Active low. If R\S\T\ is low, all DAC channels reset either to zero-scale (RSTSEL = 0) or to mid-scale (RSTSEL = 1)", 14 RSTSEL (in) "Reset select. If RSTSEL is low, input coding is binary; if high = two's complement.", 15 ~{ENABLE} (in) "The enable pin (active low) connects the SPI interface to the serial port", 16 LDAC (in) "Load DACs; rising edge triggered, loads all DAC registers"

## DAC8165ICPWR
designator U?
14-Bit, Quad Channel, Ultra-Low Glitch, Voltage Output DAC with 2.5 V, 2 ppm/degC Internal Reference, -40 to 105 degC, 16-pin SOP (PW16), Green (RoHS & no Sb/Br); Manufacturer: Texas Instruments; PartNumber: DAC8165ICPWR; DAC Channels: 4; DNL(Max)(+/-LSB): 1; Interface: Serial SPI; Power Consumption(Typ)(mW): 2.6; Resolution(Bits): 14; Settling Time(us): 8; SFDR(dB): 79; SNR(dB): 87; SubFamily: Precision DAC (=<10MSPS); DatasheetVersion: SBAS409B; PackageVersion: 4040064-4/G, 02/2011; PackageReference: PW16; PackageDescription: 16-Pin Plastic Small Outline, Body 5 x 4.4 mm, Pitch 0.65 mm; Supplier 1: Digi-Key; Supplier Part Number 1: DAC8165ICPWR-ND; Supplier 2: Mouser; Supplier Part Number 2: 595-DAC8165ICPWR; Eco-Plan: Green (RoHS & no Sb/Br); INL(Max)(+/-LSB): 4; Mounting Technology: Surface Mount; Code_JEDEC: MO-153; ComponentLink1Description: Manufacturer URL; ComponentLink1URL: http://www.ti.com/; ComponentLink2Description: Datasheet; ComponentLink2URL: http://www.ti.com/general/docs/lit/getliterature.tsp?genericPartNumber=DAC8165&fileType=pdf; ComponentLink3Description: Package Specification; ComponentLink3URL: http://www.ti.com/lit/ml/mpds361/mpds361.pdf
footprint TI-PW16_N (SOP, 16-Leads, Body 5x4.4mm, Pitch 0.65mm, IPC Medium Density)
footprint TI-PW16_L (SOP, 16-Leads, Body 5x4.4mm, Pitch 0.65mm, IPC High Density)
footprint TI-PW16_M (SOP, 16-Leads, Body 5x4.4mm, Pitch 0.65mm, IPC Low Density)
pins: 1 VOUTA (hiz) "Analog output voltage from DAC A", 2 VOUTB (hiz) "Analog output voltage from DAC B", 3 VREFH/VREFOUT (io) "Positive reference input / reference output 2.5V if internal reference used.", 4 AVDD (power) "Power-supply input, 2.7V to 5.5V", 5 VREFL (in) "Negative reference input", 6 GND (power) "Ground reference point for all circuitry on the part", 7 VOUTC (hiz) "Analog output voltage from DAC C", 8 VOUTD (hiz) "Analog output voltage from DAC D", 9 ~{SYNC} (in) "Level-triggered control input (active low). This input is the frame synchronization signal for the input data. When S\Y\N\C\ goes low, it enables the input shift register, and data are sampled on subsequent falling clock (See Datasheet)", 10 SCLK (in) "Serial clock input. Data can be transferred at rates up to 50MHz. Schmitt-Trigger logic input.", 11 DIN (in) "Serial data input. Data are clocked into the 24-bit input shift register on each falling edge of the serial clock input. Schmitt-Trigger logic input.", 12 IOVDD (power) "Digital input-output power supply", 13 ~{RST} (in) "Asynchronous reset. Active low. If R\S\T\ is low, all DAC channels reset either to zero-scale (RSTSEL = 0) or to mid-scale (RSTSEL = 1)", 14 RSTSEL (in) "Reset select. If RSTSEL is low, input coding is binary; if high = two's complement.", 15 ~{ENABLE} (in) "The enable pin (active low) connects the SPI interface to the serial port", 16 LDAC (in) "Load DACs; rising edge triggered, loads all DAC registers"

## DAC8165ICPWRG4
designator U?
14-Bit, Quad Channel, Ultra-Low Glitch, Voltage Output DAC with 2.5 V, 2 ppm/degC Internal Reference, -40 to 105 degC, 16-pin SOP (PW16), Green (RoHS & no Sb/Br); Manufacturer: Texas Instruments; PartNumber: DAC8165ICPWRG4; DAC Channels: 4; DNL(Max)(+/-LSB): 1; Interface: Serial SPI; Power Consumption(Typ)(mW): 2.6; Resolution(Bits): 14; Settling Time(us): 8; SFDR(dB): 79; SNR(dB): 87; SubFamily: Precision DAC (=<10MSPS); DatasheetVersion: SBAS409B; PackageVersion: 4040064-4/G, 02/2011; PackageReference: PW16; PackageDescription: 16-Pin Plastic Small Outline, Body 5 x 4.4 mm, Pitch 0.65 mm; Supplier 1: Digi-Key; Supplier Part Number 1: DAC8165ICPWRG4-ND; Supplier 2: Mouser; Supplier Part Number 2: 595-DAC8165ICPWRG4; Eco-Plan: Green (RoHS & no Sb/Br); INL(Max)(+/-LSB): 4; Mounting Technology: Surface Mount; Code_JEDEC: MO-153; ComponentLink1Description: Manufacturer URL; ComponentLink1URL: http://www.ti.com/; ComponentLink2Description: Datasheet; ComponentLink2URL: http://www.ti.com/general/docs/lit/getliterature.tsp?genericPartNumber=DAC8165&fileType=pdf; ComponentLink3Description: Package Specification; ComponentLink3URL: http://www.ti.com/lit/ml/mpds361/mpds361.pdf
footprint TI-PW16_N (SOP, 16-Leads, Body 5x4.4mm, Pitch 0.65mm, IPC Medium Density)
footprint TI-PW16_L (SOP, 16-Leads, Body 5x4.4mm, Pitch 0.65mm, IPC High Density)
footprint TI-PW16_M (SOP, 16-Leads, Body 5x4.4mm, Pitch 0.65mm, IPC Low Density)
pins: 1 VOUTA (hiz) "Analog output voltage from DAC A", 2 VOUTB (hiz) "Analog output voltage from DAC B", 3 VREFH/VREFOUT (io) "Positive reference input / reference output 2.5V if internal reference used.", 4 AVDD (power) "Power-supply input, 2.7V to 5.5V", 5 VREFL (in) "Negative reference input", 6 GND (power) "Ground reference point for all circuitry on the part", 7 VOUTC (hiz) "Analog output voltage from DAC C", 8 VOUTD (hiz) "Analog output voltage from DAC D", 9 ~{SYNC} (in) "Level-triggered control input (active low). This input is the frame synchronization signal for the input data. When S\Y\N\C\ goes low, it enables the input shift register, and data are sampled on subsequent falling clock (See Datasheet)", 10 SCLK (in) "Serial clock input. Data can be transferred at rates up to 50MHz. Schmitt-Trigger logic input.", 11 DIN (in) "Serial data input. Data are clocked into the 24-bit input shift register on each falling edge of the serial clock input. Schmitt-Trigger logic input.", 12 IOVDD (power) "Digital input-output power supply", 13 ~{RST} (in) "Asynchronous reset. Active low. If R\S\T\ is low, all DAC channels reset either to zero-scale (RSTSEL = 0) or to mid-scale (RSTSEL = 1)", 14 RSTSEL (in) "Reset select. If RSTSEL is low, input coding is binary; if high = two's complement.", 15 ~{ENABLE} (in) "The enable pin (active low) connects the SPI interface to the serial port", 16 LDAC (in) "Load DACs; rising edge triggered, loads all DAC registers"

## DAC8165IDPW
designator U?
14-Bit, Quad Channel, Ultra-Low Glitch, Voltage Output DAC with 2.5 V, 2 ppm/degC Internal Reference, -40 to 105 degC, 16-pin SOP (PW16), Green (RoHS & no Sb/Br); Manufacturer: Texas Instruments; PartNumber: DAC8165IDPW; DAC Channels: 4; DNL(Max)(+/-LSB): 1; INL(Max)(+/-LSB): 2; Interface: Serial SPI; Power Consumption(Typ)(mW): 2.6; Resolution(Bits): 14; Settling Time(us): 8; SFDR(dB): 79; SNR(dB): 87; SubFamily: Precision DAC (=<10MSPS); DatasheetVersion: SBAS409B; PackageVersion: 4040064-4/G, 02/2011; PackageReference: PW16; PackageDescription: 16-Pin Plastic Small Outline, Body 5 x 4.4 mm, Pitch 0.65 mm; Supplier 1: Digi-Key; Supplier Part Number 1: 296-23149-5-ND; Supplier 2: Newark; Supplier Part Number 2: 89M0342; Supplier 3: Mouser; Supplier Part Number 3: 595-DAC8165IDPW; Eco-Plan: Green (RoHS & no Sb/Br); Mounting Technology: Surface Mount; Code_JEDEC: MO-153; ComponentLink1Description: Manufacturer URL; ComponentLink1URL: http://www.ti.com/; ComponentLink2Description: Datasheet; ComponentLink2URL: http://www.ti.com/general/docs/lit/getliterature.tsp?genericPartNumber=DAC8165&fileType=pdf; ComponentLink3Description: Package Specification; ComponentLink3URL: http://www.ti.com/lit/ml/mpds361/mpds361.pdf
footprint TI-PW16_N (SOP, 16-Leads, Body 5x4.4mm, Pitch 0.65mm, IPC Medium Density)
footprint TI-PW16_L (SOP, 16-Leads, Body 5x4.4mm, Pitch 0.65mm, IPC High Density)
footprint TI-PW16_M (SOP, 16-Leads, Body 5x4.4mm, Pitch 0.65mm, IPC Low Density)
pins: 1 VOUTA (hiz) "Analog output voltage from DAC A", 2 VOUTB (hiz) "Analog output voltage from DAC B", 3 VREFH/VREFOUT (io) "Positive reference input / reference output 2.5V if internal reference used.", 4 AVDD (power) "Power-supply input, 2.7V to 5.5V", 5 VREFL (in) "Negative reference input", 6 GND (power) "Ground reference point for all circuitry on the part", 7 VOUTC (hiz) "Analog output voltage from DAC C", 8 VOUTD (hiz) "Analog output voltage from DAC D", 9 ~{SYNC} (in) "Level-triggered control input (active low). This input is the frame synchronization signal for the input data. When S\Y\N\C\ goes low, it enables the input shift register, and data are sampled on subsequent falling clock (See Datasheet)", 10 SCLK (in) "Serial clock input. Data can be transferred at rates up to 50MHz. Schmitt-Trigger logic input.", 11 DIN (in) "Serial data input. Data are clocked into the 24-bit input shift register on each falling edge of the serial clock input. Schmitt-Trigger logic input.", 12 IOVDD (power) "Digital input-output power supply", 13 ~{RST} (in) "Asynchronous reset. Active low. If R\S\T\ is low, all DAC channels reset either to zero-scale (RSTSEL = 0) or to mid-scale (RSTSEL = 1)", 14 RSTSEL (in) "Reset select. If RSTSEL is low, input coding is binary; if high = two's complement.", 15 ~{ENABLE} (in) "The enable pin (active low) connects the SPI interface to the serial port", 16 LDAC (in) "Load DACs; rising edge triggered, loads all DAC registers"

## DAC8165IDPWG4
designator U?
14-Bit, Quad Channel, Ultra-Low Glitch, Voltage Output DAC with 2.5 V, 2 ppm/degC Internal Reference, -40 to 105 degC, 16-pin SOP (PW16), Green (RoHS & no Sb/Br); Manufacturer: Texas Instruments; PartNumber: DAC8165IDPWG4; DAC Channels: 4; DNL(Max)(+/-LSB): 1; INL(Max)(+/-LSB): 2; Interface: Serial SPI; Power Consumption(Typ)(mW): 2.6; Resolution(Bits): 14; Settling Time(us): 8; SFDR(dB): 79; SNR(dB): 87; SubFamily: Precision DAC (=<10MSPS); DatasheetVersion: SBAS409B; PackageVersion: 4040064-4/G, 02/2011; PackageReference: PW16; PackageDescription: 16-Pin Plastic Small Outline, Body 5 x 4.4 mm, Pitch 0.65 mm; Supplier 1: Digi-Key; Supplier Part Number 1: DAC8165IDPWG4-ND; Supplier 2: Mouser; Supplier Part Number 2: 595-DAC8165IDPWG4; Eco-Plan: Green (RoHS & no Sb/Br); Mounting Technology: Surface Mount; Code_JEDEC: MO-153; ComponentLink1Description: Manufacturer URL; ComponentLink1URL: http://www.ti.com/; ComponentLink2Description: Datasheet; ComponentLink2URL: http://www.ti.com/general/docs/lit/getliterature.tsp?genericPartNumber=DAC8165&fileType=pdf; ComponentLink3Description: Package Specification; ComponentLink3URL: http://www.ti.com/lit/ml/mpds361/mpds361.pdf
footprint TI-PW16_N (SOP, 16-Leads, Body 5x4.4mm, Pitch 0.65mm, IPC Medium Density)
footprint TI-PW16_L (SOP, 16-Leads, Body 5x4.4mm, Pitch 0.65mm, IPC High Density)
footprint TI-PW16_M (SOP, 16-Leads, Body 5x4.4mm, Pitch 0.65mm, IPC Low Density)
pins: 1 VOUTA (hiz) "Analog output voltage from DAC A", 2 VOUTB (hiz) "Analog output voltage from DAC B", 3 VREFH/VREFOUT (io) "Positive reference input / reference output 2.5V if internal reference used.", 4 AVDD (power) "Power-supply input, 2.7V to 5.5V", 5 VREFL (in) "Negative reference input", 6 GND (power) "Ground reference point for all circuitry on the part", 7 VOUTC (hiz) "Analog output voltage from DAC C", 8 VOUTD (hiz) "Analog output voltage from DAC D", 9 ~{SYNC} (in) "Level-triggered control input (active low). This input is the frame synchronization signal for the input data. When S\Y\N\C\ goes low, it enables the input shift register, and data are sampled on subsequent falling clock (See Datasheet)", 10 SCLK (in) "Serial clock input. Data can be transferred at rates up to 50MHz. Schmitt-Trigger logic input.", 11 DIN (in) "Serial data input. Data are clocked into the 24-bit input shift register on each falling edge of the serial clock input. Schmitt-Trigger logic input.", 12 IOVDD (power) "Digital input-output power supply", 13 ~{RST} (in) "Asynchronous reset. Active low. If R\S\T\ is low, all DAC channels reset either to zero-scale (RSTSEL = 0) or to mid-scale (RSTSEL = 1)", 14 RSTSEL (in) "Reset select. If RSTSEL is low, input coding is binary; if high = two's complement.", 15 ~{ENABLE} (in) "The enable pin (active low) connects the SPI interface to the serial port", 16 LDAC (in) "Load DACs; rising edge triggered, loads all DAC registers"

## DAC8165IDPWR
designator U?
14-Bit, Quad Channel, Ultra-Low Glitch, Voltage Output DAC with 2.5 V, 2 ppm/degC Internal Reference, -40 to 105 degC, 16-pin SOP (PW16), Green (RoHS & no Sb/Br); Manufacturer: Texas Instruments; PartNumber: DAC8165IDPWR; DAC Channels: 4; DNL(Max)(+/-LSB): 1; INL(Max)(+/-LSB): 2; Interface: Serial SPI; Power Consumption(Typ)(mW): 2.6; Resolution(Bits): 14; Settling Time(us): 8; SFDR(dB): 79; SNR(dB): 87; SubFamily: Precision DAC (=<10MSPS); DatasheetVersion: SBAS409B; PackageVersion: 4040064-4/G, 02/2011; PackageReference: PW16; PackageDescription: 16-Pin Plastic Small Outline, Body 5 x 4.4 mm, Pitch 0.65 mm; Supplier 1: Digi-Key; Supplier Part Number 1: DAC8165IDPWR-ND; Supplier 2: Mouser; Supplier Part Number 2: 595-DAC8165IDPWR; Eco-Plan: Green (RoHS & no Sb/Br); Mounting Technology: Surface Mount; Code_JEDEC: MO-153; ComponentLink1Description: Manufacturer URL; ComponentLink1URL: http://www.ti.com/; ComponentLink2Description: Datasheet; ComponentLink2URL: http://www.ti.com/general/docs/lit/getliterature.tsp?genericPartNumber=DAC8165&fileType=pdf; ComponentLink3Description: Package Specification; ComponentLink3URL: http://www.ti.com/lit/ml/mpds361/mpds361.pdf
footprint TI-PW16_N (SOP, 16-Leads, Body 5x4.4mm, Pitch 0.65mm, IPC Medium Density)
footprint TI-PW16_L (SOP, 16-Leads, Body 5x4.4mm, Pitch 0.65mm, IPC High Density)
footprint TI-PW16_M (SOP, 16-Leads, Body 5x4.4mm, Pitch 0.65mm, IPC Low Density)
pins: 1 VOUTA (hiz) "Analog output voltage from DAC A", 2 VOUTB (hiz) "Analog output voltage from DAC B", 3 VREFH/VREFOUT (io) "Positive reference input / reference output 2.5V if internal reference used.", 4 AVDD (power) "Power-supply input, 2.7V to 5.5V", 5 VREFL (in) "Negative reference input", 6 GND (power) "Ground reference point for all circuitry on the part", 7 VOUTC (hiz) "Analog output voltage from DAC C", 8 VOUTD (hiz) "Analog output voltage from DAC D", 9 ~{SYNC} (in) "Level-triggered control input (active low). This input is the frame synchronization signal for the input data. When S\Y\N\C\ goes low, it enables the input shift register, and data are sampled on subsequent falling clock (See Datasheet)", 10 SCLK (in) "Serial clock input. Data can be transferred at rates up to 50MHz. Schmitt-Trigger logic input.", 11 DIN (in) "Serial data input. Data are clocked into the 24-bit input shift register on each falling edge of the serial clock input. Schmitt-Trigger logic input.", 12 IOVDD (power) "Digital input-output power supply", 13 ~{RST} (in) "Asynchronous reset. Active low. If R\S\T\ is low, all DAC channels reset either to zero-scale (RSTSEL = 0) or to mid-scale (RSTSEL = 1)", 14 RSTSEL (in) "Reset select. If RSTSEL is low, input coding is binary; if high = two's complement.", 15 ~{ENABLE} (in) "The enable pin (active low) connects the SPI interface to the serial port", 16 LDAC (in) "Load DACs; rising edge triggered, loads all DAC registers"